# Altium schematic symbol library PWM_controller_Half.SchLib: 1 symbol
Pins are listed as number, name and electrical type; pins without a type are passive.

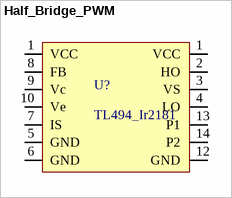
[diagram p0: symbol Half_Bridge_PWM]

## Half_Bridge_PWM
designator U?, comment TL494_Ir2181
footprint PWM_Controller_Half
pins: 1 VCC, 1 VCC, 2 HO, 3 VS, 4 LO, 5 GND, 6 GND, 7 IS, 8 FB, 9 Vc, 10 Ve, 12 GND, 13 P1, 14 P2